# EAGLE library part PMA5-83-LV+ (library My_Library_2)
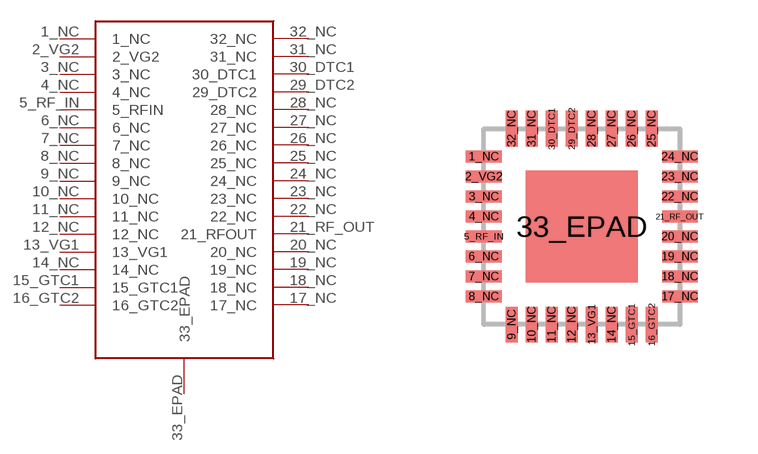
[diagram p4: symbol with the pads of QFN33; footprint QFN33]

Designator prefix -

## PMA5-83-LV+  [QFN33]
1_NC  1_NC
2_VG2  2_VG2
3_NC  3_NC
4_NC  4_NC
5_RF_IN  5_RFIN
6_NC  6_NC
7_NC  7_NC
8_NC  8_NC
9_NC  9_NC
10_NC  10_NC
11_NC  11_NC
12_NC  12_NC
13_VG1  13_VG1
14_NC  14_NC
15_GTC1  15_GTC1
16_GTC2  16_GTC2
17_NC  17_NC
18_NC  18_NC
19_NC  19_NC
20_NC  20_NC
21_RF_OUT  21_RFOUT
22_NC  22_NC
23_NC  23_NC
24_NC  24_NC
25_NC  25_NC
26_NC  26_NC
27_NC  27_NC
28_NC  28_NC
29_DTC2  29_DTC2
30_DTC1  30_DTC1
31_NC  31_NC
32_NC  32_NC
33_EPAD  33_EPAD

## Footprint QFN33 (pad centres in mm)
smd 0.89 x 0.3: 1_NC -2.45,1.75; 2_VG2 -2.45,1.25; 3_NC -2.45,0.75; 4_NC -2.45,0.25; 5_RF_IN -2.45,-0.25; 6_NC -2.45,-0.75; 7_NC -2.45,-1.25; 8_NC -2.45,-1.75; 17_NC 2.45,-1.75; 18_NC 2.45,-1.25; 19_NC 2.45,-0.75; 20_NC 2.45,-0.25; 21_RF_OUT 2.45,0.25; 22_NC 2.45,0.75; 23_NC 2.45,1.25; 24_NC 2.45,1.75
smd 0.3 x 0.89: 9_NC -1.75,-2.45; 10_NC -1.25,-2.45; 11_NC -0.75,-2.45; 12_NC -0.25,-2.45; 13_VG1 0.25,-2.45; 14_NC 0.75,-2.45; 15_GTC1 1.25,-2.45; 16_GTC2 1.75,-2.45; 25_NC 1.75,2.45; 26_NC 1.25,2.45; 27_NC 0.75,2.45; 28_NC 0.25,2.45; 29_DTC2 -0.25,2.45; 30_DTC1 -0.75,2.45; 31_NC -1.25,2.45; 32_NC -1.75,2.45
smd 2.79 x 2.79: 33_EPAD 0,0